# Altium integrated library FOXSDLF_240F-20.IntLib: 1 symbol
Pins are listed as number, name and electrical type; pins without a type are passive.

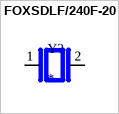
[diagram p0: symbol FOXSDLF/240F-20]

## FOXSDLF/240F-20
designator Y?
24 MHz Â±30 ppm Cristal 20 pF 30 ohmios HC-49/US; MF: Fox Electronics; MP: FOXSDLF/240F-20; SnapEDA_Link: https://www.snapeda.com/parts/FOXSDLF/240F-20/Fox+Electronics/view-part/?ref=snap; Package: HC49SD Fox Electronics; Value: *; Check_prices: https://www.snapeda.com/parts/FOXSDLF/240F-20/Fox+Electronics/view-part/?ref=eda
footprint XTAL_FOXSDLF/240F-20
pins: 1, 2